# Altium footprint library my_lib.PcbLib: 68 footprints (part 1 of 5)
Each footprint in its own frame and in the unit in brackets; x right, y up, seen from the top. Pads: shape width x height; smd on the part's side, far side on the other; paste and mask are expansions set on the pad; w line width, h text height; cw(c..) or ccw(c..) is an arc to the next point about the centre after c.
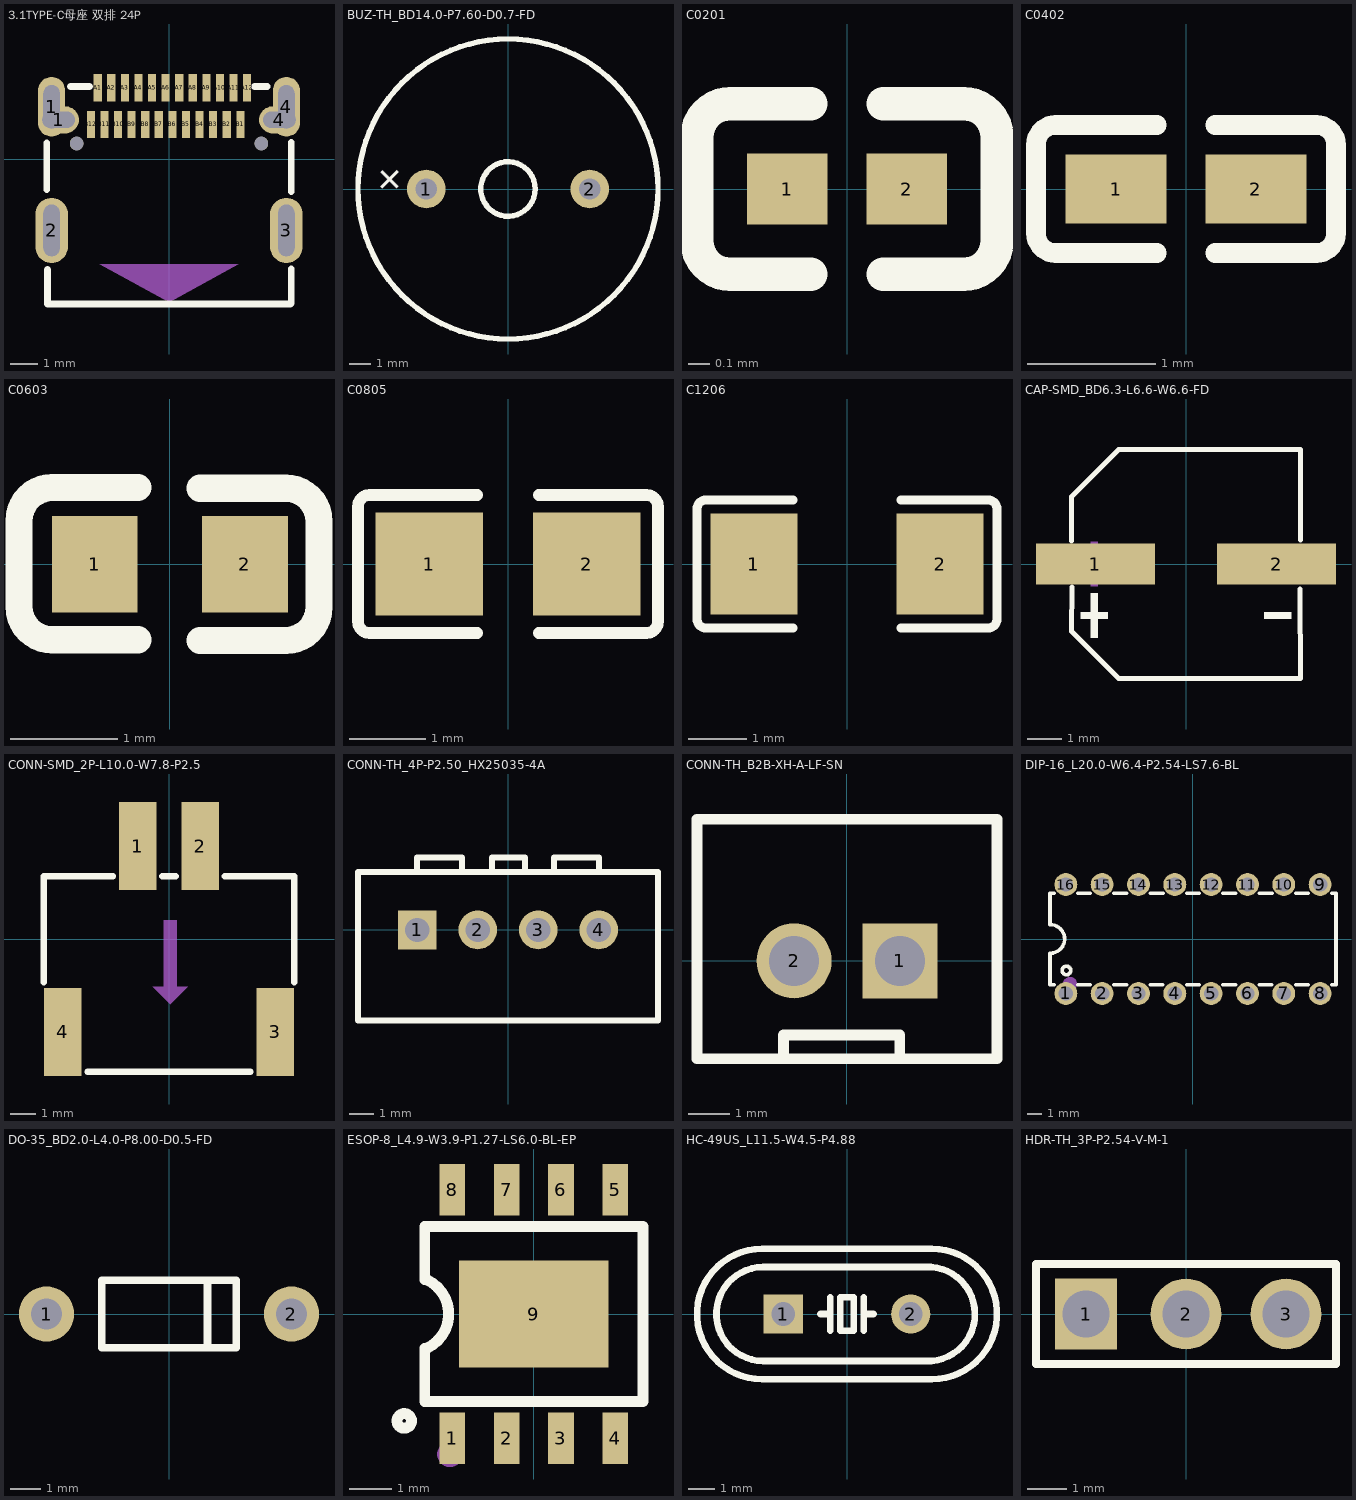
[diagram p0: the footprints below, top view; thin cyan lines are the x and y axes]

## 3.1TYPE-C母座 双排 24P [mm]
pads (32):
  oval 1x2.2 hole 0.6 slot 1.6 at 90 deg: 1(-4.32,1.925) 4(4.32,1.925)
  oval 1.5x1 hole 0.6 slot 1.2 at 0 deg: 1(-4.064,1.445) 4(4.064,1.445)
  oval 1.2x2.4 hole 0.6 slot 1.9 at 90 deg: 2(-4.32,-2.625) 3(4.32,-2.625)
  rect 0.3x1 smd: A1(-2.625,2.625) A2(-2.125,2.625) A3(-1.625,2.625) A4(-1.125,2.625) A5(-0.625,2.625) A6(-0.125,2.625) A7(0.375,2.625) A8(0.875,2.625) A9(1.375,2.625) A10(1.875,2.625) A11(2.375,2.625) A12(2.875,2.625) B1(2.625,1.275) B2(2.125,1.275) B3(1.625,1.275) B4(1.125,1.275) B5(0.625,1.275) B6(0.125,1.275) B7(-0.375,1.275) B8(-0.875,1.275) B9(-1.375,1.275) B10(-1.875,1.275) B11(-2.375,1.275) B12(-2.875,1.275)
  round 0.5 hole 0.5 unplated: ""(-3.4,0.575) ""(3.4,0.575)
Top Overlay:
  lines w0.254: -4.5,-1.123 -4.5,0.586 ; -4.469,-4.064 -4.469,-5.325 4.473,-5.325 4.5,-5.298 4.5,-4.038 ; -3.622,2.675 -2.926,2.675 ; 3.148,2.675 3.614,2.675 ; 4.5,-1.202 4.5,0.613
Top Paste:
  drawing of 30 lines, arcs and shapes, not listed
Mechanical 15:
  region: -2.54,-3.873 2.54,-3.873 0,-5.271

## BUZ-TH_BD14.0-P7.60-D0.7-FD [mm]
pads (2):
  round 1.8 hole 1: 1(-3.81,0) 2(3.81,0)
Top Overlay:
  circle w0.254: c0,0 r1.27
  circle w0.254: c0,0 r7
  text "+" at -5.647,-0.462 h1.27

## C0201 [mm]
pads (2):
  rect 0.368x0.324 smd: 1(-0.274,0) 2(0.274,0)
Top Overlay:
  lines w0.152: -0.166,-0.391 -0.535,-0.391 cw(c-0.535,-0.238) -0.687,-0.238 -0.687,0.238 cw(c-0.535,0.238) -0.535,0.391 -0.166,0.391 ; 0.166,-0.391 0.535,-0.391 ccw(c0.535,-0.238) 0.687,-0.238 0.687,0.238 ccw(c0.535,0.238) 0.535,0.391 0.166,0.391
Top Paste:
  region: -0.081,-0.138 -0.081,0.138 -0.105,0.162 -0.434,0.162 -0.458,0.138 -0.458,-0.138 -0.434,-0.162 -0.105,-0.162
  region: 0.081,-0.138 0.081,0.138 0.105,0.162 0.434,0.162 0.458,0.138 0.458,-0.138 0.434,-0.162 0.105,-0.162

## C0402 [mm]
pads (2):
  rect 0.79x0.54 smd: 1(-0.545,0) 2(0.545,0)
Top Overlay:
  lines w0.152: -0.226,-0.499 -1.016,-0.499 cw(c-1.016,-0.346) -1.169,-0.346 -1.169,0.346 cw(c-1.016,0.346) -1.016,0.499 -0.226,0.499 ; 0.226,-0.499 1.016,-0.499 ccw(c1.016,-0.346) 1.169,-0.346 1.169,0.346 ccw(c1.016,0.346) 1.016,0.499 0.226,0.499
Top Paste:
  region: -0.18,0.225 -0.18,-0.225 -0.25,-0.275 -0.73,-0.275 -0.78,-0.225 -0.78,0.225 -0.73,0.275 -0.25,0.275
  region: 0.78,0.225 0.78,-0.225 0.73,-0.275 0.25,-0.275 0.18,-0.225 0.18,0.225 0.25,0.275 0.73,0.275

## C0603 [mm]
pads (2):
  rect 0.8x0.9 smd: 1(-0.7,0) 2(0.7,0)
Top Overlay:
  lines w0.254: -0.296,-0.704 -1.096,-0.704 cw(c-1.096,-0.394) -1.406,-0.394 -1.405,0.406 cw(c-1.096,0.406) -1.096,0.715 -0.296,0.715 ; 0.28,-0.71 1.08,-0.71 ccw(c1.08,-0.4) 1.39,-0.4 1.39,0.4 ccw(c1.08,0.4) 1.08,0.71 0.28,0.71

## C0805 [mm]
pads (2):
  rect 1.41x1.35 smd: 1(-1.03,0) 2(1.03,0)
Top Overlay:
  lines w0.152: -0.401,-0.904 -1.811,-0.904 cw(c-1.811,-0.751) -1.964,-0.751 -1.964,0.751 cw(c-1.811,0.751) -1.811,0.904 -0.401,0.904 ; 0.401,-0.904 1.811,-0.904 ccw(c1.811,-0.751) 1.964,-0.751 1.964,0.751 ccw(c1.811,0.751) 1.811,0.904 0.401,0.904
Top Paste:
  region: 0.475,-0.62 0.475,-0.2 0.92,-0.2 0.92,0.25 0.48,0.25 0.475,0.66 0.525,0.71 1.675,0.71 1.725,0.66 1.725,-0.62 1.675,-0.67 0.525,-0.67
  region: -1.675,-0.62 -1.675,0.66 -1.625,0.71 -0.475,0.71 -0.425,0.66 -0.42,0.25 -0.87,0.25 -0.87,-0.2 -0.43,-0.2 -0.425,-0.62 -0.475,-0.67 -1.625,-0.67

## C1206 [mm]
pads (2):
  rect 1.485x1.728 smd: 1(-1.593,0) 2(1.593,0)
Top Overlay:
  lines w0.152: -0.926,-1.093 -2.411,-1.093 cw(c-2.411,-0.94) -2.564,-0.94 -2.564,0.94 cw(c-2.411,0.94) -2.411,1.093 -0.926,1.093 ; 0.926,-1.093 2.411,-1.093 ccw(c2.411,-0.94) 2.564,-0.94 2.564,0.94 ccw(c2.411,0.94) 2.411,1.093 0.926,1.093
Top Paste:
  region: -0.85,-0.764 -0.85,-0.394 -0.95,-0.294 -1.255,-0.294 -1.355,-0.194 -1.355,0.194 -1.255,0.294 -0.95,0.294 -0.85,0.394 -0.85,0.764 -0.95,0.864 -2.235,0.864 -2.335,0.764 -2.335,-0.764 -2.235,-0.864 -0.95,-0.864
  region: 0.85,-0.764 0.85,-0.394 0.95,-0.294 1.255,-0.294 1.355,-0.194 1.355,0.194 1.255,0.294 0.95,0.294 0.85,0.394 0.85,0.764 0.95,0.864 2.235,0.864 2.335,0.764 2.335,-0.764 2.235,-0.864 0.95,-0.864

## CAP-SMD_BD6.3-L6.6-W6.6-FD [mm]
pads (2):
  rect 3.5x1.2 smd: 1(-2.67,0) 2(2.67,0)
Top Overlay:
  region: -2.805,-0.858 -2.805,-2.178 -2.607,-2.178 -2.607,-0.858
  region: -3.102,-1.419 -3.102,-1.617 -2.31,-1.617 -2.31,-1.419
  region: 3.102,-1.419 3.102,-1.617 2.31,-1.617 2.31,-1.419
  lines w0.152: -3.376,0.686 -3.376,1.98 -1.98,3.376 3.376,3.376 3.369,0.708 ; -3.362,-0.686 -3.376,-1.981 -1.981,-3.376 3.376,-3.376 3.356,-0.739
Mechanical 15:
  region: -2.805,0.66 -2.805,-0.66 -2.607,-0.66 -2.607,0.66
  region: -3.102,0.099 -3.102,-0.099 -2.31,-0.099 -2.31,0.099
  region: 3.102,0.099 3.102,-0.099 2.31,-0.099 2.31,0.099

## CONN-SMD_2P-L10.0-W7.8-P2.5 [mm]
pads (4):
  rect 1.5x3.5 smd: 1(-1.253,3.704) 2(1.247,3.704) 3(4.233,-3.704) 4(-4.233,-3.704)
Top Overlay:
  lines w0.254: -5,-1.6 -5,-1.724 -5,2.5 -2.234,2.5 ; -3.252,-5.3 3.252,-5.3 ; -0.272,2.5 0.266,2.5 ; 2.228,2.5 5,2.5 5,-1.724
Mechanical 15:
  region: 0.3,-2.15 0.3,0.75 -0.2,0.75 -0.2,-2.15
  region: 0.75,-1.9 -0.65,-1.9 0.05,-2.6

## CONN-TH_4P-P2.50_HX25035-4A [mm]
pads (4):
  rect 1.6x1.6 hole 1: 1(-3.75,0)
  round 1.6 hole 1: 2(-1.25,0) 3(1.25,0) 4(3.75,0)
Top Overlay:
  lines w0.254: -3.761,2.4 -3.761,3 -1.9,3 -1.9,2.4 ; -0.656,2.4 -0.656,3 0.7,3 0.7,2.4 ; 1.9,2.4 1.9,3 ; 1.9,3 3.761,3 ; 1.9,3 3.761,3 ; 3.761,3 3.761,2.4 3.761,3 ; -6.2,-3.75 -6.2,2.4 6.2,2.4 6.2,-3.75 -6.2,-3.75

## CONN-TH_B2B-XH-A-LF-SN [mm]
pads (2):
  rect 1.8x1.8 hole 1.2: 1(1.27,0)
  round 1.8 hole 1.2: 2(-1.27,0)
Top Overlay:
  lines w0.254: -1.524,-2.286 -1.524,-1.778 1.27,-1.778 1.27,-2.286 ; -3.6,-2.35 -3.6,3.4 3.6,3.4 3.6,-2.35 -3.6,-2.35

## DIP-16_L20.0-W6.4-P2.54-LS7.6-BL [mm]
pads (16):
  round 1.6 hole 1: 1(-8.89,-3.81) 2(-6.35,-3.81) 3(-3.81,-3.81) 4(-1.27,-3.81) 5(1.27,-3.81) 6(3.81,-3.81) 7(6.35,-3.81) 8(8.89,-3.81) 9(8.89,3.81) 10(6.35,3.81) 11(3.81,3.81) 12(1.27,3.81) 13(-1.27,3.81) 14(-3.81,3.81) 15(-6.35,3.81) 16(-8.89,3.81)
Top Overlay:
  circle w0.254: c-8.85,-2.2 r0.3
  lines w0.254: -10,-1 -10,-3.2 -9.721,-3.2 ; -10,0.998 -10,3.198 -9.719,3.198 ; -10,1 cw(c-9.975,0) -9.95,-1 ; -8.061,3.198 -7.179,3.198 ; -8.059,-3.2 -7.181,-3.2 ; -5.521,3.198 -4.639,3.198 ; -5.519,-3.2 -4.641,-3.2 ; -2.981,3.198 -2.099,3.198 ; -2.979,-3.2 -2.101,-3.2 ; -0.441,3.198 0.441,3.198 ; -0.439,-3.2 0.439,-3.2 ; 2.099,3.198 2.981,3.198 ; 2.101,-3.2 2.979,-3.2 ; 4.639,3.198 5.521,3.198 ; 4.641,-3.2 5.519,-3.2 ; 7.179,3.198 8.061,3.198 ; 7.181,-3.2 8.059,-3.2 ; 9.719,3.198 10,3.198 ; 9.721,-3.2 10,-3.2 10,3.2
Mechanical 15:
  circle w0.5: c-8.6,-3.15 r0.25

## DO-35_BD2.0-L4.0-P8.00-D0.5-FD [mm]
pads (2):
  round 1.8 hole 1: 1(-4,0) 2(4,0)
Top Overlay:
  lines w0.254: 1.261,-1.1 1.261,1.1 ; -2.2,-1.1 -2.2,1.1 2.2,1.1 2.2,-1.1 -2.2,-1.1

## ESOP-8_L4.9-W3.9-P1.27-LS6.0-BL-EP [mm]
pads (9):
  rect 0.6x1.2 smd: 1(-1.905,-2.908) 2(-0.635,-2.908) 3(0.635,-2.908) 4(1.905,-2.908) 5(1.905,2.908) 6(0.635,2.908) 7(-0.635,2.908) 8(-1.905,2.908)
  rect 3.5x2.5 smd: 9(0,0)
Top Overlay:
  circle w0.254: c-3.03,-2.5 r0.17
  lines w0.254: -2.55,-0.8 -2.55,-2.05 2.55,-2.05 2.55,2.05 -2.55,2.05 -2.55,0.8 ; -2.5,-0.8 ccw(c-2.875,0) -2.5,0.8
Mechanical 15:
  circle w0.3: c-1.96,-3.28 r0.15

## HC-49US_L11.5-W4.5-P4.88 [mm]
pads (2):
  rect 1.5x1.5 hole 0.9: 1(-2.44,0)
  round 1.5 hole 0.9: 2(2.44,0)
Top Overlay:
  lines w0.254: -3.251,2.499 ccw(c-3.243,0) -3.25,-2.5 3.25,-2.5 ; -3.25,2.5 3.25,2.5 cw(c3.243,0) 3.251,-2.499 ; -3.2,1.8 3.2,1.8 cw(c3.093,0) 3,-1.801 ; -3.2,1.801 ccw(c-3.2,0) -3.2,-1.8 3,-1.8 ; -1.016,0 -0.635,0 ; -0.635,-0.635 -0.635,0 ; -0.635,0.635 -0.635,0 ; 0.635,-0.635 0.635,0 ; 0.635,0.635 0.635,0 ; 1.016,0 0.635,0 ; -0.254,-0.635 -0.254,0.635 0.254,0.635 0.254,-0.635 -0.254,-0.635

## HDR-TH_3P-P2.54-V-M-1 [mm]
pads (3):
  rect 1.575x1.8 hole 1.2: 1(-2.54,0)
  round 1.8 hole 1.2: 2(0,0) 3(2.54,0)
Top Overlay:
  lines w0.203: -3.81,-1.27 -3.81,1.27 -1.905,1.27 3.81,1.27 3.81,-1.27 -3.81,-1.27